# Altium footprint library Switches.PcbLib: 2 footprints
Each footprint in its own frame and in the unit in brackets; x right, y up, seen from the top. Pads: shape width x height; smd on the part's side, far side on the other; paste and mask are expansions set on the pad; w line width, h text height; cw(c..) or ccw(c..) is an arc to the next point about the centre after c.
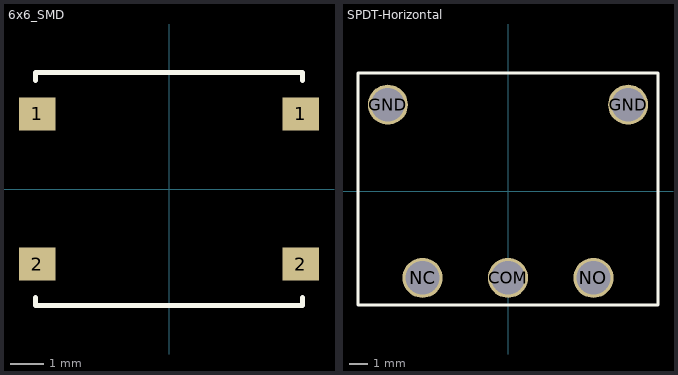
[diagram p0: the footprints below, top view; thin cyan lines are the x and y axes]

## 6x6_SMD [mm]
pads (4):
  rect 1.1x1 smd: 1(-3.95,2.25) 1(3.95,2.25) 2(-3.95,-2.25) 2(3.95,-2.25)
Top Overlay:
  lines w0.15: -4,-3.25 -4,-3.5 4,-3.5 4,-3.25 ; -4,3.25 -4,3.5 4,3.5 4,3.25
3D body "TACT SMD 6X6.step": height 5, standoff 0, extent -5,-3 5,3

## SPDT-Horizontal [mm]
pads (5):
  round 2.2 hole 1.85: COM(0,-4.765) GND(-6.605,4.765) GND(6.605,4.765) NC(-4.7,-4.765) NO(4.7,-4.765)
Top Overlay:
  lines w0.15: -8.25,-6.25 -8.25,6.5 8.25,6.5 8.25,-6.25 -8.25,-6.25
3D body "Switch_500SSP1S1M6QEA.STEP": height 6.6, standoff -3.18, extent -6.785,-5.4 6.785,10.79